# Altium integrated library 2N7002WT1G.IntLib: 1 symbol
Pins are listed as number, name and electrical type; pins without a type are passive.

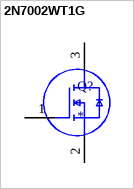
[diagram p0: symbol 2N7002WT1G]

## 2N7002WT1G
designator Q?
No Description Available; Mfr_Name: onsemi; RefDes: RefDes; Type: Type
footprint SOT-323-3_2P2X1P35_ONS
pins: 1 GATE, 2 SOURCE, 3 DRAIN